# EAGLE library part 74HC4040D,652 (library 74HC4040D_652)
74HC(T)4040 - 12-stage binary ripple counter@en-us Source: Datasheet <https://assets.nexperia.com/documents/data-sheet/74HC_HCT4040.pdf>
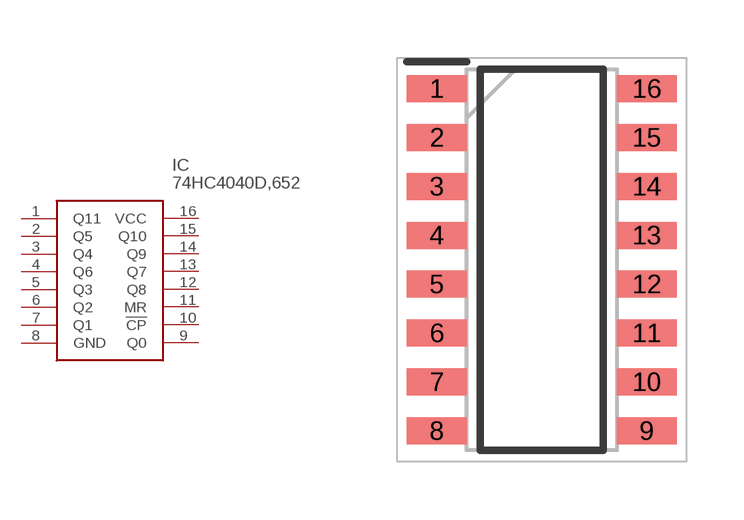
[diagram p0: symbol with the pads of SOIC127P600X175-16N; footprint SOIC127P600X175-16N]

Designator prefix IC

## 74HC4040D,652 (Arrow_Part_Number: 74HC4040D,652; Arrow_Price-Stock: https://www.arrow.com/en/products/74hc4040d652/nexperia; Description: 74HC(T)4040 - 12-stage binary ripple counter@en-us; Height: 1.75mm; Manufacturer_Name: Nexperia; Manufacturer_Part_Number: 74HC4040D,652; Mouser_Part_Number: 771-HC4040D652; Mouser_Price-Stock: https://www.mouser.co.uk/ProductDetail/Nexperia/74HC4040D652?qs=P62ublwmbi%252BprP5gU1ILjQ%3D%3D)  [SOIC127P600X175-16N]
1  Q11
2  Q5
3  Q4
4  Q6
5  Q3
6  Q2
7  Q1
8  GND
9  Q0
10  !CP
11  MR
12  Q8
13  Q7
14  Q9
15  Q10
16  VCC

## Footprint SOIC127P600X175-16N (pad centres in mm)
SO16
smd 1.55 x 0.7: 1 -2.725,4.445; 2 -2.725,3.175; 3 -2.725,1.905; 4 -2.725,0.635; 5 -2.725,-0.635; 6 -2.725,-1.905; 7 -2.725,-3.175; 8 -2.725,-4.445; 9 2.725,-4.445; 10 2.725,-3.175; 11 2.725,-1.905; 12 2.725,-0.635; 13 2.725,0.635; 14 2.725,1.905; 15 2.725,3.175; 16 2.725,4.445